# EAGLE library part MPU6050 (library MECH223)
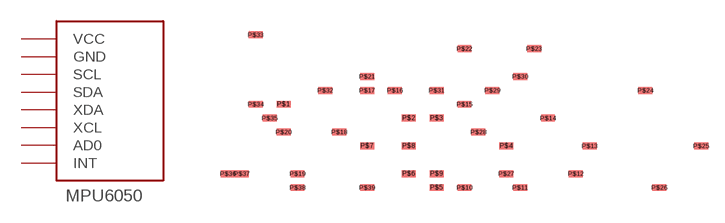
[diagram p0: symbol with the pads of IC; footprint IC]

Designator prefix -

## MPU6050  [IC]
P$1  AD0
P$2  GND
P$3  INT
P$4  SCL
P$5  SDA
P$6  VCC
P$7  XCL
P$8  XDA

## Footprint IC (pad centres in mm)
smd 1.27 x 0.635: P$1 -24.13,3.81; P$2 -12.7,2.54; P$3 -10.16,2.54; P$4 -3.81,0; P$5 -10.16,-3.81; P$6 -12.7,-2.54; P$7 -16.51,0; P$8 -12.7,0; P$9 -10.16,-2.54; P$10 -7.62,-3.81; P$11 -2.54,-3.81; P$12 2.54,-2.54; P$13 3.81,0; P$14 0,2.54; P$15 -7.62,3.81; P$16 -13.97,5.08; P$17 -16.51,5.08; P$18 -19.05,1.27; P$19 -22.86,-2.54; P$20 -24.13,1.27; P$21 -16.51,6.35; P$22 -7.62,8.89; P$23 -1.27,8.89; P$24 8.89,5.08; P$25 13.97,0; P$26 10.16,-3.81; P$27 -3.81,-2.54; P$28 -6.35,1.27; P$29 -5.08,5.08; P$30 -2.54,6.35; P$31 -10.16,5.08; P$32 -20.32,5.08; P$33 -26.67,10.16; P$34 -26.67,3.81; P$35 -25.4,2.54; P$36 -29.21,-2.54; P$37 -27.94,-2.54; P$38 -22.86,-3.81; P$39 -16.51,-3.81